# EAGLE library part ADA4528 (library awqua_eagle_library)
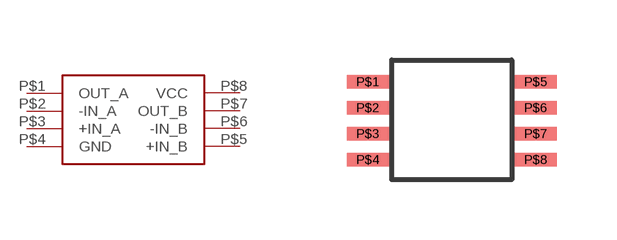
[diagram p22: symbol with the pads of ADA4528; footprint ADA4528]

Designator prefix -

## ADA4528  [ADA4528]
P$1  OUT_A
P$2  -IN_A
P$3  +IN_A
P$4  GND
P$5  +IN_B
P$6  -IN_B
P$7  OUT_B
P$8  VCC

## Footprint ADA4528 (pad centres in mm)
smd 1.05 x 0.33: P$1 -0.6,2.45; P$2 -0.6,1.8; P$3 -0.6,1.15; P$4 -0.6,0.5; P$5 3.6,2.45; P$6 3.6,1.8; P$7 3.6,1.15; P$8 3.6,0.5